# Altium integrated library Altium_Coil_Inductor.IntLib: 94 symbols (part 1 of 3)
Pins are listed as number, name and electrical type; pins without a type are passive.

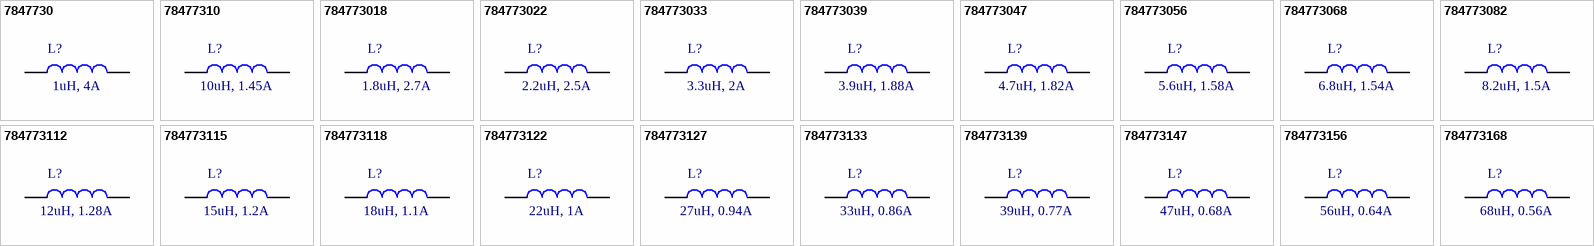
[diagram p0: symbols 7847730 to 784773168]

## 7847730
designator L?, comment 1uH, 4A
WE-PD2A SMT Power Inductor, size 4532, 1uH, 4A; Manufacturer Part Number: 7847730; Manufacturer: Wurth Elektronik; DC Resistance max.: 0.049Ohm; Saturation Current: 5.72A; Self Resonant Frequency: 110MHz; DC Resistance typ.: 0.014Ohm; Rated Voltage: 80VDC; Supply 1 Name: Digi-Key; Supply 1 SN: 732-6803-2-ND; Supply 2 Name: Mouser; Supply 2 SN: 710-7847730; Supply 3 Name: thegioiic; ComponentLink1Description: Manufacturer; ComponentLink1URL: http://www.we-online.de; ComponentLink2Description: Datasheet; ComponentLink2URL: https://www.we-online.com/catalog/datasheet/7847730.pdf; Published Date: May 2020; Rated Current: 4A; Inductance: 1uH; Operating Temperature: -40 to +125degC; Mounting Technology: SMT; Packaging: Tape and Reel; Size: 4532; Supply 1 URL: https://www.digikey.com/en/products/detail/w%C3%BCrth-elektronik/7847730/5168772; Supply 2 URL: https://www.mouser.vn/ProductDetail/Wurth-Elektronik/7847730?qs=sBf%2Fb4nBSlde5F9DDjxYmQ%3D%3D; Supply 3 URL: https://www.thegioiic.com/cuon-cam-dan-smd-cd43-4532-1r0-1uh-2-7a
footprint WE-PD2A_4532
pins: 1, 2

## 78477310
designator L?, comment 10uH, 1.45A
WE-PD2A SMT Power Inductor, size 4532, 10uH, 1.45A; Manufacturer Part Number: 78477310; Manufacturer: Wurth Elektronik; DC Resistance max.: 0.182Ohm; Saturation Current: 1.74A; Self Resonant Frequency: 30MHz; DC Resistance typ.: 0.118Ohm; Rated Voltage: 80VDC; Supply 1 Name: Digi-Key; Supply 1 SN: 732-6812-2-ND; Supply 2 Name: Mouser; Supply 2 SN: 710-78477310; Supply 3 Name: thegioiic; ComponentLink1Description: Manufacturer; ComponentLink1URL: http://www.we-online.de; ComponentLink2Description: Datasheet; ComponentLink2URL: https://www.we-online.com/catalog/datasheet/78477310.pdf; Published Date: May 2020; Rated Current: 1.45A; Inductance: 10uH; Operating Temperature: -40 to +125degC; Mounting Technology: SMT; Packaging: Tape and Reel; Size: 4532; Supply 1 URL: https://www.digikey.com/en/products/detail/w%C3%BCrth-elektronik/78477310/5168778?s=N4IgTCBcDaIOwA4Asc4GYCMAGEBdAvkA; Supply 2 URL: https://www.mouser.vn/ProductDetail/Wurth-Elektronik/78477310?qs=sBf%2Fb4nBSldyYvbSID7ftA%3D%3D; Supply 3 URL: https://www.thegioiic.com/cuon-cam-dan-smd-cd43-4532-100-10uh-1-04a
footprint WE-PD2A_4532
pins: 1, 2

## 784773018
designator L?, comment 1.8uH, 2.7A
WE-PD2A SMT Power Inductor, size 4532, 1.8uH, 2.7A; Manufacturer Part Number: 784773018; Manufacturer: Wurth Elektronik; DC Resistance max.: 0.064Ohm; Saturation Current: 3.6A; Self Resonant Frequency: 85MHz; DC Resistance typ.: 0.028Ohm; Rated Voltage: 80VDC; Supply 1 Name: Digi-Key; Supply 1 SN: 732-6804-2-ND; Supply 2 Name: Mouser; Supply 2 SN: 710-784773018; ComponentLink1Description: Manufacturer; ComponentLink1URL: http://www.we-online.de; ComponentLink2Description: Datasheet; ComponentLink2URL: https://www.we-online.com/catalog/datasheet/784773018.pdf; Published Date: May 2020; Rated Current: 2.7A; Inductance: 1.8uH; Operating Temperature: -40 to +125degC; Mounting Technology: SMT; Packaging: Tape and Reel; Size: 4532; Supply 1 URL: https://www.digikey.com/en/products/detail/w%C3%BCrth-elektronik/784773018/5168841?s=N4IgTCBcDaIOwA4Asc4GYAMBGBIC6AvkA; Supply 2 URL: https://www.mouser.vn/ProductDetail/Wurth-Elektronik/784773018?qs=sBf%2Fb4nBSleQ5H1IVXBHSg%3D%3D
footprint WE-PD2A_4532
pins: 1, 2

## 784773022
designator L?, comment 2.2uH, 2.5A
WE-PD2A SMT Power Inductor, size 4532, 2.2uH, 2.5A; Manufacturer Part Number: 784773022; Manufacturer: Wurth Elektronik; DC Resistance max.: 0.071Ohm; Saturation Current: 3.38A; Self Resonant Frequency: 74MHz; DC Resistance typ.: 0.034Ohm; Rated Voltage: 80VDC; Supply 1 Name: Digi-Key; Supply 1 SN: 732-6805-2-ND; Supply 2 Name: Mouser; Supply 2 SN: 710-784773022; Supply 3 Name: thegioiic; ComponentLink1Description: Manufacturer; ComponentLink1URL: http://www.we-online.de; ComponentLink2Description: Datasheet; ComponentLink2URL: https://www.we-online.com/catalog/datasheet/784773022.pdf; Published Date: May 2020; Rated Current: 2.5A; Inductance: 2.2uH; Operating Temperature: -40 to +125degC; Mounting Technology: SMT; Packaging: Tape and Reel; Size: 4532; Supply 1 URL: https://www.digikey.com/en/products/detail/w%C3%BCrth-elektronik/784773022/5168842?s=N4IgTCBcDaIOwA4Asc4GYAMYIF0C%2BQA; Supply 2 URL: https://www.mouser.vn/ProductDetail/Wurth-Elektronik/784773022?qs=sBf%2Fb4nBSlcBBrrMBQmuMg%3D%3D; Supply 3 URL: https://www.thegioiic.com/cuon-cam-dan-smd-cd43-4532-2r2-2-2uh-2-25a
footprint WE-PD2A_4532
pins: 1, 2

## 784773033
designator L?, comment 3.3uH, 2A
WE-PD2A SMT Power Inductor, size 4532, 3.3uH, 2A; Manufacturer Part Number: 784773033; Manufacturer: Wurth Elektronik; DC Resistance max.: 0.086Ohm; Saturation Current: 2.88A; Self Resonant Frequency: 55MHz; DC Resistance typ.: 0.041Ohm; Rated Voltage: 80VDC; Supply 1 Name: Digi-Key; Supply 1 SN: 732-6806-2-ND; Supply 2 Name: Mouser; Supply 2 SN: 710-784773033; Supply 3 Name: thegioiic; ComponentLink1Description: Manufacturer; ComponentLink1URL: http://www.we-online.de; ComponentLink2Description: Datasheet; ComponentLink2URL: https://www.we-online.com/catalog/datasheet/784773033.pdf; Published Date: May 2020; Rated Current: 2A; Inductance: 3.3uH; Operating Temperature: -40 to +125degC; Mounting Technology: SMT; Packaging: Tape and Reel; Size: 4532; Supply 1 URL: https://www.digikey.com/en/products/detail/w%C3%BCrth-elektronik/784773033/5168843?s=N4IgTCBcDaIOwA4Asc4GYAMa0gLoF8g; Supply 2 URL: https://www.mouser.vn/ProductDetail/Wurth-Elektronik/784773033?qs=sBf%2Fb4nBSlcLzNIjutVkew%3D%3D; Supply 3 URL: https://www.thegioiic.com/cuon-cam-dan-smd-cd43-4532-3r3-3-3uh-2a
footprint WE-PD2A_4532
pins: 1, 2

## 784773039
designator L?, comment 3.9uH, 1.88A
WE-PD2A SMT Power Inductor, size 4532, 3.9uH, 1.88A; Manufacturer Part Number: 784773039; Manufacturer: Wurth Elektronik; DC Resistance max.: 0.094Ohm; Saturation Current: 2.57A; Self Resonant Frequency: 50MHz; DC Resistance typ.: 0.054Ohm; Rated Voltage: 80VDC; Supply 1 Name: Digi-Key; Supply 1 SN: 732-6807-2-ND; Supply 2 Name: Mouser; Supply 2 SN: 710-784773039; ComponentLink1Description: Manufacturer; ComponentLink1URL: http://www.we-online.de; ComponentLink2Description: Datasheet; ComponentLink2URL: https://www.we-online.com/catalog/datasheet/784773039.pdf; Published Date: May 2020; Rated Current: 1.88A; Inductance: 3.9uH; Operating Temperature: -40 to +125degC; Mounting Technology: SMT; Packaging: Tape and Reel; Size: 4532; Supply 1 URL: https://www.digikey.com/en/products/detail/w%C3%BCrth-elektronik/784773039/5168844?s=N4IgTCBcDaIOwA4Asc4GYAMaCcIC6AvkA; Supply 2 URL: https://www.mouser.vn/ProductDetail/Wurth-Elektronik/784773039?qs=sBf%2Fb4nBSlfKtooI5th99Q%3D%3D
footprint WE-PD2A_4532
pins: 1, 2

## 784773047
designator L?, comment 4.7uH, 1.82A
WE-PD2A SMT Power Inductor, size 4532, 4.7uH, 1.82A; Manufacturer Part Number: 784773047; Manufacturer: Wurth Elektronik; DC Resistance max.: 0.11Ohm; Saturation Current: 2.46A; Self Resonant Frequency: 45MHz; DC Resistance typ.: 0.059Ohm; Rated Voltage: 80VDC; Supply 1 Name: Digi-Key; Supply 1 SN: 732-6808-2-ND; Supply 2 Name: Mouser; Supply 2 SN: 710-784773047; Supply 3 Name: thegioiic; ComponentLink1Description: Manufacturer; ComponentLink1URL: http://www.we-online.de; ComponentLink2Description: Datasheet; ComponentLink2URL: https://www.we-online.com/catalog/datasheet/784773047.pdf; Published Date: May 2020; Rated Current: 1.82A; Inductance: 4.7uH; Operating Temperature: -40 to +125degC; Mounting Technology: SMT; Packaging: Tape and Reel; Size: 4532; Supply 1 URL: https://www.digikey.com/en/products/detail/w%C3%BCrth-elektronik/784773047/5168845?s=N4IgTCBcDaIOwA4Asc4GYAMKQF0C%2BQA; Supply 2 URL: https://www.mouser.vn/ProductDetail/Wurth-Elektronik/784773047?qs=sBf%2Fb4nBSlexMu59FZ%252B%2F%2Fw%3D%3D; Supply 3 URL: https://www.thegioiic.com/cuon-cam-dan-smd-cd43-4532-4r7-4-7uh-1-62a
footprint WE-PD2A_4532
pins: 1, 2

## 784773056
designator L?, comment 5.6uH, 1.58A
WE-PD2A SMT Power Inductor, size 4532, 5.6uH, 1.58A; Manufacturer Part Number: 784773056; Manufacturer: Wurth Elektronik; DC Resistance max.: 0.126Ohm; Saturation Current: 2.43A; Self Resonant Frequency: 40MHz; DC Resistance typ.: 0.069Ohm; Rated Voltage: 80VDC; Supply 1 Name: Digi-Key; Supply 1 SN: 732-6809-2-ND; Supply 2 Name: Mouser; Supply 2 SN: 710-784773056; ComponentLink1Description: Manufacturer; ComponentLink1URL: http://www.we-online.de; ComponentLink2Description: Datasheet; ComponentLink2URL: https://www.we-online.com/catalog/datasheet/784773056.pdf; Published Date: May 2020; Rated Current: 1.58A; Inductance: 5.6uH; Operating Temperature: -40 to +125degC; Mounting Technology: SMT; Packaging: Tape and Reel; Size: 4532; Supply 1 URL: https://www.digikey.com/en/products/detail/w%C3%BCrth-elektronik/784773056/5168846?s=N4IgTCBcDaIOwA4Asc4GYAMBWAbCAugL5A; Supply 2 URL: https://www.mouser.vn/ProductDetail/Wurth-Elektronik/784773056?qs=sBf%2Fb4nBSlc8abp2k0EE6g%3D%3D
footprint WE-PD2A_4532
pins: 1, 2

## 784773068
designator L?, comment 6.8uH, 1.54A
WE-PD2A SMT Power Inductor, size 4532, 6.8uH, 1.54A; Manufacturer Part Number: 784773068; Manufacturer: Wurth Elektronik; DC Resistance max.: 0.131Ohm; Saturation Current: 2.1A; Self Resonant Frequency: 35MHz; DC Resistance typ.: 0.076Ohm; Rated Voltage: 80VDC; Supply 1 Name: Digi-Key; Supply 1 SN: 732-6810-2-ND; Supply 2 Name: Mouser; Supply 2 SN: 710-784773068; Supply 3 Name: thegioiic; ComponentLink1Description: Manufacturer; ComponentLink1URL: http://www.we-online.de; ComponentLink2Description: Datasheet; ComponentLink2URL: https://www.we-online.com/catalog/datasheet/784773068.pdf; Published Date: May 2020; Rated Current: 1.54A; Inductance: 6.8uH; Operating Temperature: -40 to +125degC; Mounting Technology: SMT; Packaging: Tape and Reel; Size: 4532; Parameter 1: *; Supply 1 URL: https://www.digikey.com/en/products/detail/w%C3%BCrth-elektronik/784773068/5168847?s=N4IgTCBcDaIOwA4Asc4GYAMA2BIC6AvkA; Supply 2 URL: https://www.mouser.vn/ProductDetail/Wurth-Elektronik/784773068?qs=sBf%2Fb4nBSlcnXmzECz8Epw%3D%3D; Supply 3 URL: https://www.thegioiic.com/cuon-cam-dan-smd-cd43-4532-6r8-6-8uh-1-43a
footprint WE-PD2A_4532
pins: 1, 2

## 784773082
designator L?, comment 8.2uH, 1.5A
WE-PD2A SMT Power Inductor, size 4532, 8.2uH, 1.5A; Manufacturer Part Number: 784773082; Manufacturer: Wurth Elektronik; DC Resistance max.: 0.146Ohm; Saturation Current: 1.8A; Self Resonant Frequency: 30MHz; DC Resistance typ.: 0.116Ohm; Rated Voltage: 80VDC; Supply 1 Name: Digi-Key; Supply 1 SN: 732-6811-2-ND; Supply 2 Name: Mouser; Supply 2 SN: 710-784773082; ComponentLink1Description: Manufacturer; ComponentLink1URL: http://www.we-online.de; ComponentLink2Description: Datasheet; ComponentLink2URL: https://www.we-online.com/catalog/datasheet/784773082.pdf; Published Date: May 2020; Rated Current: 1.5A; Inductance: 8.2uH; Operating Temperature: -40 to +125degC; Mounting Technology: SMT; Packaging: Tape and Reel; Size: 4532; Supply 1 URL: https://www.digikey.com/en/products/detail/w%C3%BCrth-elektronik/784773082/5168848?s=N4IgTCBcDaIOwA4Asc4GYAMCIF0C%2BQA; Supply 2 URL: https://www.mouser.vn/ProductDetail/Wurth-Elektronik/784773082?qs=sBf%2Fb4nBSlcCjuVMP%252BH0Qg%3D%3D
footprint WE-PD2A_4532
pins: 1, 2

## 784773112
designator L?, comment 12uH, 1.28A
WE-PD2A SMT Power Inductor, size 4532, 12uH, 1.28A; Manufacturer Part Number: 784773112; Manufacturer: Wurth Elektronik; DC Resistance max.: 0.21Ohm; Saturation Current: 1.62A; Self Resonant Frequency: 30MHz; DC Resistance typ.: 0.156Ohm; Rated Voltage: 80VDC; Supply 1 Name: Digi-Key; Supply 1 SN: 732-6813-2-ND; Supply 2 Name: Mouser; Supply 2 SN: 710-784773112; ComponentLink1Description: Manufacturer; ComponentLink1URL: http://www.we-online.de; ComponentLink2Description: Datasheet; ComponentLink2URL: https://www.we-online.com/catalog/datasheet/784773112.pdf; Published Date: May 2020; Rated Current: 1.28A; Inductance: 12uH; Operating Temperature: -40 to +125degC; Mounting Technology: SMT; Packaging: Tape and Reel; Size: 4532; Supply 1 URL: https://www.digikey.com/en/products/detail/w%C3%BCrth-elektronik/784773112/5168849?s=N4IgTCBcDaIOwA4Asc4GYCMGIF0C%2BQA; Supply 2 URL: https://www.mouser.vn/ProductDetail/Wurth-Elektronik/784773112?qs=sBf%2Fb4nBSlcUWypdFvrQSg%3D%3D
footprint WE-PD2A_4532
pins: 1, 2

## 784773115
designator L?, comment 15uH, 1.2A
WE-PD2A SMT Power Inductor, size 4532, 15uH, 1.2A; Manufacturer Part Number: 784773115; Manufacturer: Wurth Elektronik; DC Resistance max.: 0.235Ohm; Saturation Current: 1.46A; Self Resonant Frequency: 27MHz; DC Resistance typ.: 0.204Ohm; Rated Voltage: 80VDC; Supply 1 Name: Digi-Key; Supply 1 SN: 732-6814-2-ND; Supply 2 Name: Mouser; Supply 2 SN: 710-784773115; ComponentLink1Description: Manufacturer; ComponentLink1URL: http://www.we-online.de; ComponentLink2Description: Datasheet; ComponentLink2URL: https://www.we-online.com/catalog/datasheet/784773115.pdf; Published Date: May 2020; Rated Current: 1.2A; Inductance: 15uH; Operating Temperature: -40 to +125degC; Mounting Technology: SMT; Packaging: Tape and Reel; Size: 4532; Supply 1 URL: https://www.digikey.com/en/products/detail/w%C3%BCrth-elektronik/784773115/5168850?s=N4IgTCBcDaIOwA4Asc4GYCMGCsIC6AvkA; Supply 2 URL: https://www.mouser.vn/ProductDetail/Wurth-Elektronik/784773115?qs=sBf%2Fb4nBSlf%252Be0gXfR1Slw%3D%3D
footprint WE-PD2A_4532
pins: 1, 2

## 784773118
designator L?, comment 18uH, 1.1A
WE-PD2A SMT Power Inductor, size 4532, 18uH, 1.1A; Manufacturer Part Number: 784773118; Manufacturer: Wurth Elektronik; DC Resistance max.: 0.338Ohm; Saturation Current: 1.29A; Self Resonant Frequency: 22MHz; DC Resistance typ.: 0.225Ohm; Rated Voltage: 80VDC; Supply 1 Name: Digi-Key; Supply 1 SN: 732-6815-2-ND; Supply 2 Name: Mouser; Supply 2 SN: 710-784773118; ComponentLink1Description: Manufacturer; ComponentLink1URL: http://www.we-online.de; ComponentLink2Description: Datasheet; ComponentLink2URL: https://www.we-online.com/catalog/datasheet/784773118.pdf; Published Date: May 2020; Rated Current: 1.1A; Inductance: 18uH; Operating Temperature: -40 to +125degC; Mounting Technology: SMT; Packaging: Tape and Reel; Size: 4532; Supply 1 URL: https://www.digikey.com/en/products/detail/w%C3%BCrth-elektronik/784773118/5168851?s=N4IgTCBcDaIOwA4Asc4GYCMGEgLoF8g; Supply 2 URL: https://www.mouser.vn/ProductDetail/Wurth-Elektronik/784773118?qs=sBf%2Fb4nBSldB4lq3T1V5tg%3D%3D
footprint WE-PD2A_4532
pins: 1, 2

## 784773122
designator L?, comment 22uH, 1A
WE-PD2A SMT Power Inductor, size 4532, 22uH, 1A; Manufacturer Part Number: 784773122; Manufacturer: Wurth Elektronik; DC Resistance max.: 0.37Ohm; Saturation Current: 1.22A; Self Resonant Frequency: 20MHz; DC Resistance typ.: 0.261Ohm; Rated Voltage: 80VDC; Supply 1 Name: Digi-Key; Supply 1 SN: 732-6816-2-ND; Supply 2 Name: Mouser; Supply 2 SN: 710-784773122; ComponentLink1Description: Manufacturer; ComponentLink1URL: http://www.we-online.de; ComponentLink2Description: Datasheet; ComponentLink2URL: https://www.we-online.com/catalog/datasheet/784773122.pdf; Published Date: May 2020; Rated Current: 1A; Inductance: 22uH; Operating Temperature: -40 to +125degC; Mounting Technology: SMT; Packaging: Tape and Reel; Size: 4532; Supply 1 URL: https://www.digikey.com/en/products/detail/w%C3%BCrth-elektronik/784773122/5168852?s=N4IgTCBcDaIOwA4Asc4GYCMYIF0C%2BQA; Supply 2 URL: https://www.mouser.vn/ProductDetail/Wurth-Elektronik/784773122?qs=sBf%2Fb4nBSlcvmW779TjjSg%3D%3D
footprint WE-PD2A_4532
pins: 1, 2

## 784773127
designator L?, comment 27uH, 0.94A
WE-PD2A SMT Power Inductor, size 4532, 27uH, 0.94A; Manufacturer Part Number: 784773127; Manufacturer: Wurth Elektronik; DC Resistance max.: 0.522Ohm; Saturation Current: 1A; Self Resonant Frequency: 17MHz; DC Resistance typ.: 0.328Ohm; Rated Voltage: 80VDC; Supply 1 Name: Digi-Key; Supply 1 SN: 732-6817-2-ND; Supply 2 Name: Mouser; Supply 2 SN: 710-784773127; ComponentLink1Description: Manufacturer; ComponentLink1URL: http://www.we-online.de; ComponentLink2Description: Datasheet; ComponentLink2URL: https://www.we-online.com/catalog/datasheet/784773127.pdf; Published Date: May 2020; Rated Current: 0.94A; Inductance: 27uH; Operating Temperature: -40 to +125degC; Mounting Technology: SMT; Packaging: Tape and Reel; Size: 4532; Supply 1 URL: https://www.digikey.com/en/products/detail/w%C3%BCrth-elektronik/784773127/5168853?s=N4IgTCBcDaIOwA4Asc4GYCMY4gLoF8g; Supply 2 URL: https://www.mouser.vn/ProductDetail/Wurth-Elektronik/784773127?qs=sBf%2Fb4nBSldFrOzMksw2nQ%3D%3D
footprint WE-PD2A_4532
pins: 1, 2

## 784773133
designator L?, comment 33uH, 0.86A
WE-PD2A SMT Power Inductor, size 4532, 33uH, 0.86A; Manufacturer Part Number: 784773133; Manufacturer: Wurth Elektronik; DC Resistance max.: 0.54Ohm; Saturation Current: 0.9A; Self Resonant Frequency: 16MHz; DC Resistance typ.: 0.37Ohm; Rated Voltage: 80VDC; Supply 1 Name: Digi-Key; Supply 1 SN: 732-6818-2-ND; Supply 2 Name: Mouser; Supply 2 SN: 710-784773133; ComponentLink1Description: Manufacturer; ComponentLink1URL: http://www.we-online.de; ComponentLink2Description: Datasheet; ComponentLink2URL: https://www.we-online.com/catalog/datasheet/784773133.pdf; Published Date: May 2020; Rated Current: 0.86A; Inductance: 33uH; Operating Temperature: -40 to +125degC; Mounting Technology: SMT; Packaging: Tape and Reel; Size: 4532; Supply 1 URL: https://www.digikey.com/en/products/detail/w%C3%BCrth-elektronik/784773133/5168854?s=N4IgTCBcDaIOwA4Asc4GYCMa0gLoF8g; Supply 2 URL: https://www.mouser.vn/ProductDetail/Wurth-Elektronik/784773133?qs=sBf%2Fb4nBSldLFXm7e5FBgg%3D%3D
footprint WE-PD2A_4532 (SMD Power Inductor, body 4.5x4mm)
pins: 1, 2

## 784773139
designator L?, comment 39uH, 0.77A
WE-PD2A SMT Power Inductor, size 4532, 39uH, 0.77A; Manufacturer Part Number: 784773139; Manufacturer: Wurth Elektronik; DC Resistance max.: 0.587Ohm; Saturation Current: 0.87A; Self Resonant Frequency: 15MHz; DC Resistance typ.: 0.418Ohm; Rated Voltage: 80VDC; Supply 1 Name: Digi-Key; Supply 1 SN: 732-6819-2-ND; Supply 2 Name: Mouser; Supply 2 SN: 710-784773139; ComponentLink1Description: Manufacturer; ComponentLink1URL: http://www.we-online.de; ComponentLink2Description: Datasheet; ComponentLink2URL: https://www.we-online.com/catalog/datasheet/784773139.pdf; Published Date: May 2020; Rated Current: 0.77A; Inductance: 39uH; Operating Temperature: -40 to +125degC; Mounting Technology: SMT; Packaging: Tape and Reel; Size: 4532; Supply 1 URL: https://www.digikey.com/en/products/detail/w%C3%BCrth-elektronik/784773139/5168855?s=N4IgTCBcDaIOwA4Asc4GYCMaCcIC6AvkA; Supply 2 URL: https://www.mouser.vn/ProductDetail/Wurth-Elektronik/784773139?qs=sBf%2Fb4nBSleGlFolV50CBA%3D%3D
footprint WE-PD2A_4532
pins: 1, 2

## 784773147
designator L?, comment 47uH, 0.68A
WE-PD2A SMT Power Inductor, size 4532, 47uH, 0.68A; Manufacturer Part Number: 784773147; Manufacturer: Wurth Elektronik; DC Resistance max.: 0.844Ohm; Saturation Current: 0.77A; Self Resonant Frequency: 12MHz; DC Resistance typ.: 0.523Ohm; Rated Voltage: 80VDC; Supply 1 Name: Digi-Key; Supply 2 Name: Mouser; Supply 1 SN: 732-6820-2-ND; Supply 2 SN: 710-784773147; ComponentLink1Description: Manufacturer; ComponentLink1URL: http://www.we-online.de; ComponentLink2Description: Datasheet; ComponentLink2URL: https://www.we-online.com/catalog/datasheet/784773147.pdf; Published Date: May 2020; Rated Current: 0.68A; Inductance: 47uH; Operating Temperature: -40 to +125degC; Mounting Technology: SMT; Packaging: Tape and Reel; Size: 4532; Supply 1 URL: https://www.digikey.com/en/products/detail/w%C3%BCrth-elektronik/784773147/5168856?s=N4IgTCBcDaIOwA4Asc4GYCMKQF0C%2BQA; Supply 2 URL: https://www.mouser.vn/ProductDetail/Wurth-Elektronik/784773147?qs=sBf%2Fb4nBSle9kgx4I0M%252BSA%3D%3D
footprint WE-PD2A_4532
pins: 1, 2

## 784773156
designator L?, comment 56uH, 0.64A
WE-PD2A SMT Power Inductor, size 4532, 56uH, 0.64A; Manufacturer Part Number: 784773156; Manufacturer: Wurth Elektronik; DC Resistance max.: 0.937Ohm; Saturation Current: 0.75A; Self Resonant Frequency: 12MHz; DC Resistance typ.: 0.714Ohm; Rated Voltage: 80VDC; Supply 1 Name: Digi-Key; Supply 2 Name: Mouser; Supply 1 SN: 732-6821-2-ND; Supply 2 SN: 710-784773156; ComponentLink1Description: Manufacturer; ComponentLink1URL: http://www.we-online.de; ComponentLink2Description: Datasheet; ComponentLink2URL: https://www.we-online.com/catalog/datasheet/784773156.pdf; Published Date: May 2020; Rated Current: 0.64A; Inductance: 56uH; Operating Temperature: -40 to +125degC; Mounting Technology: SMT; Packaging: Tape and Reel; Size: 4532; Supply 1 URL: https://www.digikey.com/en/products/detail/w%C3%BCrth-elektronik/784773156/5168857?s=N4IgTCBcDaIOwA4Asc4GYCMBWAbCAugL5A; Supply 2 URL: https://www.mouser.vn/ProductDetail/Wurth-Elektronik/784773156?qs=sBf%2Fb4nBSleyP3AnWTna%252BQ%3D%3D
footprint WE-PD2A_4532
pins: 1, 2

## 784773168
designator L?, comment 68uH, 0.56A
WE-PD2A SMT Power Inductor, size 4532, 68uH, 0.56A; Manufacturer Part Number: 784773168; Manufacturer: Wurth Elektronik; DC Resistance max.: 1.117Ohm; Saturation Current: 0.68A; Self Resonant Frequency: 11MHz; DC Resistance typ.: 0.754Ohm; Rated Voltage: 80VDC; Supply 1 Name: Digi-Key; Supply 2 Name: Mouser; Supply 1 SN: 732-6822-2-ND; Supply 2 SN: 710-784773168; ComponentLink1Description: Manufacturer; ComponentLink1URL: http://www.we-online.de; ComponentLink2Description: Datasheet; ComponentLink2URL: https://www.we-online.com/catalog/datasheet/784773168.pdf; Published Date: May 2020; Rated Current: 0.56A; Inductance: 68uH; Operating Temperature: -40 to +125degC; Mounting Technology: SMT; Packaging: Tape and Reel; Size: 4532; Supply 1 URL: https://www.digikey.com/en/products/detail/w%C3%BCrth-elektronik/784773168/5168858?s=N4IgTCBcDaIOwA4Asc4GYCMA2BIC6AvkA; Supply 2 URL: https://www.mouser.vn/ProductDetail/Wurth-Elektronik/784773168?qs=sBf%2Fb4nBSle9WMcPwYFP2g%3D%3D
footprint WE-PD2A_4532
pins: 1, 2


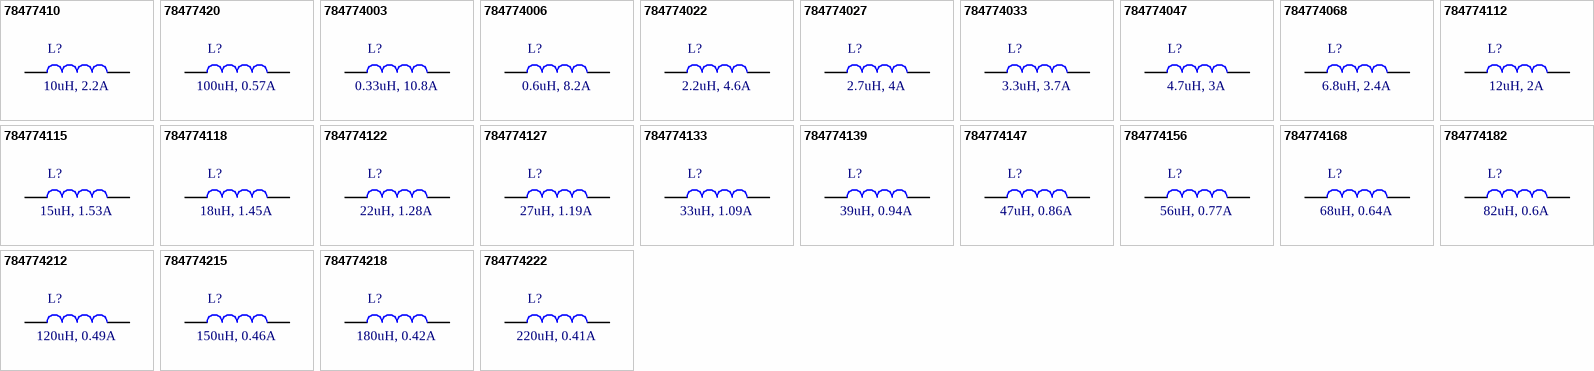
[diagram p1: symbols 78477410 to 784774222]

## 78477410
designator L?, comment 10uH, 2.2A
WE-PD2A SMT Power Inductor, size 5848, 10uH, 2.2A; Manufacturer Part Number: 78477410; Manufacturer: Wurth Elektronik; DC Resistance max.: 0.1Ohm; Saturation Current: 2.5A; Self Resonant Frequency: 26MHz; DC Resistance typ.: 0.078Ohm; Rated Voltage: 80VDC; Supply 1 Name: Digi-Key; Supply 1 SN: 732-6830-2-ND; Supply 2 Name: Mouser; Supply 2 SN: 710-78477410; Supply 3 Name: thegioiic; ComponentLink1Description: Manufacturer; ComponentLink1URL: http://www.we-online.de; ComponentLink2Description: Datasheet; ComponentLink2URL: https://www.we-online.com/catalog/datasheet/78477410.pdf; Published Date: May 2020; Rated Current: 2.2A; Inductance: 10uH; Operating Temperature: -40 to +125degC; Mounting Technology: SMT; Packaging: Tape and Reel; Size: 5848; Supply 1 URL: https://www.digikey.com/en/products/detail/w%C3%BCrth-elektronik/78477410/5168779?s=N4IgTCBcDaIOwA4Asc5IIwAYQF0C%2BQA; Supply 2 URL: https://www.mouser.vn/ProductDetail/Wurth-Elektronik/78477410?qs=sBf%2Fb4nBSldlX6CYaJExDg%3D%3D; Supply 3 URL: https://www.thegioiic.com/cuon-cam-dan-smd-cd53-5852-100-10uh-1-8a
footprint WE-PD2A_5848
pins: 1, 2

## 78477420
designator L?, comment 100uH, 0.57A
WE-PD2A SMT Power Inductor, size 5848, 100uH, 0.57A; Manufacturer Part Number: 78477420; Manufacturer: Wurth Elektronik; DC Resistance max.: 0.65Ohm; Saturation Current: 0.68A; Self Resonant Frequency: 7MHz; DC Resistance typ.: 0.51Ohm; Rated Voltage: 80VDC; Supply 1 Name: Digi-Key; Supply 1 SN: 732-6842-2-ND; Supply 2 Name: Mouser; Supply 2 SN: 710-78477420; Supply 3 Name: thegioiic; ComponentLink1Description: Manufacturer; ComponentLink1URL: http://www.we-online.de; ComponentLink2Description: Datasheet; ComponentLink2URL: https://www.we-online.com/catalog/datasheet/78477420.pdf; Published Date: May 2020; Rated Current: 0.57A; Inductance: 100uH; Operating Temperature: -40 to +125degC; Mounting Technology: SMT; Packaging: Tape and Reel; Size: 5848; Supply 1 URL: https://www.digikey.com/en/products/detail/w%C3%BCrth-elektronik/78477420/5168780?s=N4IgTCBcDaIOwA4Asc5LABhAXQL5A; Supply 2 URL: https://www.mouser.vn/ProductDetail/Wurth-Elektronik/78477420?qs=sBf%2Fb4nBSlcdU46whVu6%2FA%3D%3D; Supply 3 URL: https://www.thegioiic.com/cuon-cam-dan-smd-cd53-5852-101-100uh-4-5a
footprint WE-PD2A_5848
pins: 1, 2

## 784774003
designator L?, comment 0.33uH, 10.8A
WE-PD2A SMT Power Inductor, size 5848, 0.33uH, 10.8A; Manufacturer Part Number: 784774003; Manufacturer: Wurth Elektronik; DC Resistance max.: 0.008Ohm; Saturation Current: 15.3A; Self Resonant Frequency: 295MHz; DC Resistance typ.: 0.006Ohm; Rated Voltage: 80VDC; Supply 1 Name: Digi-Key; Supply 1 SN: 732-6823-2-ND; Supply 2 Name: Mouser; Supply 2 SN: 710-784774003; ComponentLink1Description: Manufacturer; ComponentLink1URL: http://www.we-online.de; ComponentLink2Description: Datasheet; ComponentLink2URL: https://www.we-online.com/catalog/datasheet/784774003.pdf; Published Date: May 2020; Rated Current: 10.8A; Inductance: 0.33uH; Operating Temperature: -40 to +125degC; Mounting Technology: SMT; Packaging: Tape and Reel; Size: 5848; Supply 1 URL: https://www.digikey.com/en/products/detail/w%C3%BCrth-elektronik/784774003/5168859?s=N4IgTCBcDaIOwA4Asc5IAzoMwgLoF8g; Supply 2 URL: https://www.mouser.vn/ProductDetail/Wurth-Elektronik/784774003?qs=sBf%2Fb4nBSlfsz1qgrFR5cw%3D%3D
footprint WE-PD2A_5848 (SMD Power Inductor, body 5.8x5.2mm)
pins: 1, 2

## 784774006
designator L?, comment 0.6uH, 8.2A
WE-PD2A SMT Power Inductor, size 5848, 0.6uH, 8.2A; Manufacturer Part Number: 784774006; Manufacturer: Wurth Elektronik; DC Resistance max.: 0.018Ohm; Saturation Current: 13.5A; Self Resonant Frequency: 210MHz; DC Resistance typ.: 0.009Ohm; Rated Voltage: 80VDC; Supply 1 Name: Digi-Key; Supply 1 SN: 732-6824-2-ND; Supply 2 Name: Mouser; Supply 2 SN: 710-784774006; ComponentLink1Description: Manufacturer; ComponentLink1URL: http://www.we-online.de; ComponentLink2Description: Datasheet; ComponentLink2URL: https://www.we-online.com/catalog/datasheet/784774006.pdf; Published Date: May 2020; Rated Current: 8.2A; Inductance: 0.6uH; Operating Temperature: -40 to +125degC; Mounting Technology: SMT; Packaging: Tape and Reel; Size: 5848; Supply 1 URL: https://www.digikey.com/en/products/detail/w%C3%BCrth-elektronik/784774006/5168860?s=N4IgTCBcDaIOwA4Asc5IAzoGwgLoF8g; Supply 2 URL: https://www.mouser.vn/ProductDetail/Wurth-Elektronik/784774006?qs=sBf%2Fb4nBSld9EioUyJB1Lg%3D%3D
footprint WE-PD2A_5848
pins: 1, 2

## 784774022
designator L?, comment 2.2uH, 4.6A
WE-PD2A SMT Power Inductor, size 5848, 2.2uH, 4.6A; Manufacturer Part Number: 784774022; Manufacturer: Wurth Elektronik; DC Resistance max.: 0.041Ohm; Saturation Current: 8.2A; Self Resonant Frequency: 54MHz; DC Resistance typ.: 0.026Ohm; Rated Voltage: 80VDC; Supply 1 Name: Digi-Key; Supply 1 SN: 732-6825-2-ND; Supply 2 Name: Mouser; Supply 2 SN: 710-784774022; Supply 3 Name: thegioiic; ComponentLink1Description: Manufacturer; ComponentLink1URL: http://www.we-online.de; ComponentLink2Description: Datasheet; ComponentLink2URL: https://www.we-online.com/catalog/datasheet/784774022.pdf; Published Date: May 2020; Rated Current: 4.6A; Inductance: 2.2uH; Operating Temperature: -40 to +125degC; Mounting Technology: SMT; Packaging: Tape and Reel; Size: 5848; Supply 1 URL: https://www.digikey.com/en/products/detail/w%C3%BCrth-elektronik/784774022/5168861?s=N4IgTCBcDaIOwA4Asc5IAxggXQL5A; Supply 2 URL: https://www.mouser.vn/ProductDetail/Wurth-Elektronik/784774022?qs=sBf%2Fb4nBSlfFQ39MxtOnjA%3D%3D; Supply 3 URL: https://www.thegioiic.com/cuon-cam-dan-smd-cd53-5852-2r2-2-2uh-3-5a
footprint WE-PD2A_5848
pins: 1, 2

## 784774027
designator L?, comment 2.7uH, 4A
WE-PD2A SMT Power Inductor, size 5848, 2.7uH, 4A; Manufacturer Part Number: 784774027; Manufacturer: Wurth Elektronik; DC Resistance max.: 0.045Ohm; Saturation Current: 8A; Self Resonant Frequency: 50MHz; DC Resistance typ.: 0.032Ohm; Rated Voltage: 80VDC; Supply 1 Name: Digi-Key; Supply 1 SN: 732-6826-2-ND; Supply 2 Name: Mouser; Supply 2 SN: 710-784774027; Supply 3 Name: thegioiic; ComponentLink1Description: Manufacturer; ComponentLink1URL: http://www.we-online.de; ComponentLink2Description: Datasheet; ComponentLink2URL: https://www.we-online.com/catalog/datasheet/784774027.pdf; Published Date: May 2020; Rated Current: 4A; Inductance: 2.7uH; Operating Temperature: -40 to +125degC; Mounting Technology: SMT; Packaging: Tape and Reel; Size: 5848; Supply 1 URL: https://www.digikey.com/en/products/detail/w%C3%BCrth-elektronik/784774027/5168862?s=N4IgTCBcDaIOwA4Asc5IAxjiAugXyA; Supply 2 URL: https://www.mouser.vn/ProductDetail/Wurth-Elektronik/784774027?qs=sBf%2Fb4nBSlfgMvNsCt7evg%3D%3D; Supply 3 URL: https://www.thegioiic.com/cuon-cam-dan-smd-cd53-5852-2r7-2-7uh-3-2a
footprint WE-PD2A_5848
pins: 1, 2

## 784774033
designator L?, comment 3.3uH, 3.7A
WE-PD2A SMT Power Inductor, size 5848, 3.3uH, 3.7A; Manufacturer Part Number: 784774033; Manufacturer: Wurth Elektronik; DC Resistance max.: 0.06Ohm; Saturation Current: 7.5A; Self Resonant Frequency: 43MHz; DC Resistance typ.: 0.042Ohm; Rated Voltage: 80VDC; Supply 1 Name: Digi-Key; Supply 1 SN: 732-6827-2-ND; Supply 2 Name: Mouser; Supply 2 SN: 710-784774033; Supply 3 Name: thegioiic; ComponentLink1Description: Manufacturer; ComponentLink1URL: http://www.we-online.de; ComponentLink2Description: Datasheet; ComponentLink2URL: https://www.we-online.com/catalog/datasheet/784774033.pdf; Published Date: May 2020; Rated Current: 3.7A; Inductance: 3.3uH; Operating Temperature: -40 to +125degC; Mounting Technology: SMT; Packaging: Tape and Reel; Size: 5848; Supply 1 URL: https://www.digikey.com/en/products/detail/w%C3%BCrth-elektronik/784774033/5168863?s=N4IgTCBcDaIOwA4Asc5IAwGZMgLoF8g; Supply 2 URL: https://www.mouser.vn/ProductDetail/Wurth-Elektronik/784774033?qs=sBf%2Fb4nBSldyuij1RzSGcA%3D%3D; Supply 3 URL: https://www.thegioiic.com/cuon-cam-dan-smd-cd53-5852-3r3-3-3uh-2-8a
footprint WE-PD2A_5848
pins: 1, 2

## 784774047
designator L?, comment 4.7uH, 3A
WE-PD2A SMT Power Inductor, size 5848, 4.7uH, 3A; Manufacturer Part Number: 784774047; Manufacturer: Wurth Elektronik; DC Resistance max.: 0.071Ohm; Saturation Current: 5.5A; Self Resonant Frequency: 33MHz; DC Resistance typ.: 0.056Ohm; Rated Voltage: 80VDC; Supply 1 Name: Digi-Key; Supply 1 SN: 732-6828-2-ND; Supply 2 Name: Mouser; Supply 2 SN: 710-784774047; Supply 3 Name: thegioiic; ComponentLink1Description: Manufacturer; ComponentLink1URL: http://www.we-online.de; ComponentLink2Description: Datasheet; ComponentLink2URL: https://www.we-online.com/catalog/datasheet/784774047.pdf; Published Date: May 2020; Rated Current: 3A; Inductance: 4.7uH; Operating Temperature: -40 to +125degC; Mounting Technology: SMT; Packaging: Tape and Reel; Size: 5848; Supply 1 URL: https://www.digikey.com/en/products/detail/w%C3%BCrth-elektronik/784774047/5168864?s=N4IgTCBcDaIOwA4Asc5IAwpAXQL5A; Supply 2 URL: https://www.mouser.vn/ProductDetail/Wurth-Elektronik/784774047?qs=sBf%2Fb4nBSld3fMFHG3nO%252Bw%3D%3D; Supply 3 URL: https://www.thegioiic.com/cuon-cam-dan-smd-cd53-5852-4r7-4-7uh-2-5a
footprint WE-PD2A_5848
pins: 1, 2

## 784774068
designator L?, comment 6.8uH, 2.4A
WE-PD2A SMT Power Inductor, size 5848, 6.8uH, 2.4A; Manufacturer Part Number: 784774068; Manufacturer: Wurth Elektronik; DC Resistance max.: 0.082Ohm; Saturation Current: 5A; Self Resonant Frequency: 28MHz; DC Resistance typ.: 0.071Ohm; Rated Voltage: 80VDC; Supply 1 Name: Digi-Key; Supply 1 SN: 732-6829-2-ND; Supply 2 Name: Mouser; Supply 2 SN: 710-784774068; Supply 3 Name: thegioiic; ComponentLink1Description: Manufacturer; ComponentLink1URL: http://www.we-online.de; ComponentLink2Description: Datasheet; ComponentLink2URL: https://www.we-online.com/catalog/datasheet/784774068.pdf; Published Date: May 2020; Rated Current: 2.4A; Inductance: 6.8uH; Operating Temperature: -40 to +125degC; Mounting Technology: SMT; Packaging: Tape and Reel; Size: 5848; Supply 1 URL: https://www.digikey.com/en/products/detail/w%C3%BCrth-elektronik/784774068/5168865?s=N4IgTCBcDaIOwA4Asc5IAwDYEgLoF8g; Supply 2 URL: https://www.mouser.vn/ProductDetail/Wurth-Elektronik/784774068?qs=sBf%2Fb4nBSlfEjoZazogbYQ%3D%3D; Supply 3 URL: https://www.thegioiic.com/cuon-cam-dan-smd-cd53-5852-6r8-6-8uh-2-2a
footprint WE-PD2A_5848
pins: 1, 2

## 784774112
designator L?, comment 12uH, 2A
WE-PD2A SMT Power Inductor, size 5848, 12uH, 2A; Manufacturer Part Number: 784774112; Manufacturer: Wurth Elektronik; DC Resistance max.: 0.11Ohm; Saturation Current: 1.94A; Self Resonant Frequency: 24MHz; DC Resistance typ.: 0.082Ohm; Rated Voltage: 80VDC; Supply 1 Name: Digi-Key; Supply 1 SN: 732-6831-2-ND; Supply 2 Name: Mouser; Supply 2 SN: 710-784774112; ComponentLink1Description: Manufacturer; ComponentLink1URL: http://www.we-online.de; ComponentLink2Description: Datasheet; ComponentLink2URL: https://www.we-online.com/catalog/datasheet/784774112.pdf; Published Date: May 2020; Rated Current: 2A; Inductance: 12uH; Operating Temperature: -40 to +125degC; Mounting Technology: SMT; Packaging: Tape and Reel; Size: 5848; Supply 1 URL: https://www.digikey.com/en/products/detail/w%C3%BCrth-elektronik/784774112/5168866?s=N4IgTCBcDaIOwA4Asc5IIzogXQL5A; Supply 2 URL: https://www.mouser.vn/ProductDetail/Wurth-Elektronik/784774112?qs=sBf%2Fb4nBSlcatMhetvXIaQ%3D%3D
footprint WE-PD2A_5848
pins: 1, 2

## 784774115
designator L?, comment 15uH, 1.53A
WE-PD2A SMT Power Inductor, size 5848, 15uH, 1.53A; Manufacturer Part Number: 784774115; Manufacturer: Wurth Elektronik; DC Resistance max.: 0.14Ohm; Saturation Current: 1.9A; Self Resonant Frequency: 20MHz; DC Resistance typ.: 0.089Ohm; Rated Voltage: 80VDC; Supply 1 Name: Digi-Key; Supply 1 SN: 732-6832-2-ND; Supply 2 Name: Mouser; Supply 2 SN: 710-784774115; Supply 3 Name: thegioiic; ComponentLink1Description: Manufacturer; ComponentLink1URL: http://www.we-online.de; ComponentLink2Description: Datasheet; ComponentLink2URL: https://www.we-online.com/catalog/datasheet/784774115.pdf; Published Date: May 2020; Rated Current: 1.53A; Inductance: 15uH; Operating Temperature: -40 to +125degC; Mounting Technology: SMT; Packaging: Tape and Reel; Size: 5848; Supply 1 URL: https://www.digikey.com/en/products/detail/w%C3%BCrth-elektronik/784774115/5168867?s=N4IgTCBcDaIOwA4Asc5IIzoKwgLoF8g; Supply 2 URL: https://www.mouser.vn/ProductDetail/Wurth-Elektronik/784774115?qs=sBf%2Fb4nBSleoo7TtqR8SIg%3D%3D; Supply 3 URL: https://www.thegioiic.com/cuon-cam-dan-smd-cd53-5852-150-15uh-1-7a
footprint WE-PD2A_5848
pins: 1, 2

## 784774118
designator L?, comment 18uH, 1.45A
WE-PD2A SMT Power Inductor, size 5848, 18uH, 1.45A; Manufacturer Part Number: 784774118; Manufacturer: Wurth Elektronik; DC Resistance max.: 0.15Ohm; Saturation Current: 1.69A; Self Resonant Frequency: 19MHz; DC Resistance typ.: 0.104Ohm; Rated Voltage: 80VDC; Supply 1 Name: Digi-Key; Supply 1 SN: 732-6833-2-ND; Supply 2 Name: Mouser; Supply 2 SN: 710-784774118; Supply 3 Name: thegioiic; ComponentLink1Description: Manufacturer; ComponentLink1URL: http://www.we-online.de; ComponentLink2Description: Datasheet; ComponentLink2URL: https://www.we-online.com/catalog/datasheet/784774118.pdf; Published Date: May 2020; Rated Current: 1.45A; Inductance: 18uH; Operating Temperature: -40 to +125degC; Mounting Technology: SMT; Packaging: Tape and Reel; Size: 5848; Supply 1 URL: https://www.digikey.com/en/products/detail/w%C3%BCrth-elektronik/784774118/5168868?s=N4IgTCBcDaIOwA4Asc5IIzoSAugXyA; Supply 2 URL: https://www.mouser.vn/ProductDetail/Wurth-Elektronik/784774118?qs=sBf%2Fb4nBSldyi82E%2Fy0cEQ%3D%3D; Supply 3 URL: https://www.thegioiic.com/cuon-cam-dan-smd-cd53-5852-180-18uh-1-6a
footprint WE-PD2A_5848
pins: 1, 2

## 784774122
designator L?, comment 22uH, 1.28A
WE-PD2A SMT Power Inductor, size 5848, 22uH, 1.28A; Manufacturer Part Number: 784774122; Manufacturer: Wurth Elektronik; DC Resistance max.: 0.18Ohm; Saturation Current: 1.53A; Self Resonant Frequency: 16MHz; DC Resistance typ.: 0.109Ohm; Rated Voltage: 80VDC; Supply 1 Name: Digi-Key; Supply 1 SN: 732-6834-2-ND; Supply 2 Name: Mouser; Supply 2 SN: 710-784774122; Supply 3 Name: thegioiic; ComponentLink1Description: Manufacturer; ComponentLink1URL: http://www.we-online.de; ComponentLink2Description: Datasheet; ComponentLink2URL: https://www.we-online.com/catalog/datasheet/784774122.pdf; Published Date: May 2020; Rated Current: 1.28A; Inductance: 22uH; Operating Temperature: -40 to +125degC; Mounting Technology: SMT; Packaging: Tape and Reel; Size: 5848; Supply 1 URL: https://www.digikey.com/en/products/detail/w%C3%BCrth-elektronik/784774122/5168869?s=N4IgTCBcDaIOwA4Asc5IIxggXQL5A; Supply 2 URL: https://www.mouser.vn/ProductDetail/Wurth-Elektronik/784774122?qs=sBf%2Fb4nBSlfVM2OiWUTSBg%3D%3D; Supply 3 URL: https://www.thegioiic.com/cuon-cam-dan-smd-cd53-5852-220-22uh-1-5a
footprint WE-PD2A_5848
pins: 1, 2

## 784774127
designator L?, comment 27uH, 1.19A
WE-PD2A SMT Power Inductor, size 5848, 27uH, 1.19A; Manufacturer Part Number: 784774127; Manufacturer: Wurth Elektronik; DC Resistance max.: 0.2Ohm; Saturation Current: 1.4A; Self Resonant Frequency: 15MHz; DC Resistance typ.: 0.133Ohm; Rated Voltage: 80VDC; Supply 1 Name: Digi-Key; Supply 1 SN: 732-6835-2-ND; Supply 2 Name: Mouser; Supply 2 SN: 710-784774127; Supply 3 Name: thegioiic; ComponentLink1Description: Manufacturer; ComponentLink1URL: http://www.we-online.de; ComponentLink2Description: Datasheet; ComponentLink2URL: https://www.we-online.com/catalog/datasheet/784774127.pdf; Published Date: May 2020; Rated Current: 1.19A; Inductance: 27uH; Operating Temperature: -40 to +125degC; Mounting Technology: SMT; Packaging: Tape and Reel; Size: 5848; Supply 1 URL: https://www.digikey.com/en/products/detail/w%C3%BCrth-elektronik/784774127/5168870?s=N4IgTCBcDaIOwA4Asc5IIxjiAugXyA; Supply 2 URL: https://www.mouser.vn/ProductDetail/Wurth-Elektronik/784774127?qs=sBf%2Fb4nBSldrlnc5m4le1w%3D%3D; Supply 3 URL: https://www.thegioiic.com/cuon-cam-dan-smd-cd53-5852-270-27uh-1-4a
footprint WE-PD2A_5848
pins: 1, 2

## 784774133
designator L?, comment 33uH, 1.09A
WE-PD2A SMT Power Inductor, size 5848, 33uH, 1.09A; Manufacturer Part Number: 784774133; Manufacturer: Wurth Elektronik; DC Resistance max.: 0.23Ohm; Saturation Current: 1.17A; Self Resonant Frequency: 14MHz; DC Resistance typ.: 0.15Ohm; Rated Voltage: 80VDC; Supply 1 Name: Digi-Key; Supply 1 SN: 732-6836-2-ND; Supply 2 Name: Mouser; Supply 2 SN: 710-784774133; Supply 3 Name: thegioiic; ComponentLink1Description: Manufacturer; ComponentLink1URL: http://www.we-online.de; ComponentLink2Description: Datasheet; ComponentLink2URL: https://www.we-online.com/catalog/datasheet/784774133.pdf; Published Date: May 2020; Rated Current: 1.09A; Inductance: 33uH; Operating Temperature: -40 to +125degC; Mounting Technology: SMT; Packaging: Tape and Reel; Size: 5848; Supply 1 URL: https://www.digikey.com/en/products/detail/w%C3%BCrth-elektronik/784774133/5168871?s=N4IgTCBcDaIOwA4Asc5IIwGZMgLoF8g; Supply 2 URL: https://www.mouser.vn/ProductDetail/Wurth-Elektronik/784774133?qs=sBf%2Fb4nBSlcKSvlJ1UQYww%3D%3D; Supply 3 URL: https://www.thegioiic.com/cuon-cam-dan-smd-cd53-5852-330-33uh-1-1a
footprint WE-PD2A_5848
pins: 1, 2

## 784774139
designator L?, comment 39uH, 0.94A
WE-PD2A SMT Power Inductor, size 5848, 39uH, 0.94A; Manufacturer Part Number: 784774139; Manufacturer: Wurth Elektronik; DC Resistance max.: 0.32Ohm; Saturation Current: 1.1A; Self Resonant Frequency: 12MHz; DC Resistance typ.: 0.215Ohm; Rated Voltage: 80VDC; Supply 1 Name: Digi-Key; Supply 1 SN: 732-6837-2-ND; Supply 2 Name: Mouser; Supply 2 SN: 710-784774139; Supply 3 Name: thegioiic; ComponentLink1Description: Manufacturer; ComponentLink1URL: http://www.we-online.de; ComponentLink2Description: Datasheet; ComponentLink2URL: https://www.we-online.com/catalog/datasheet/784774139.pdf; Published Date: May 2020; Rated Current: 0.94A; Inductance: 39uH; Operating Temperature: -40 to +125degC; Mounting Technology: SMT; Packaging: Tape and Reel; Size: 5848; Supply 1 URL: https://www.digikey.com/en/products/detail/w%C3%BCrth-elektronik/784774139/5168872?s=N4IgTCBcDaIOwA4Asc5IIwGYCcIC6AvkA; Supply 2 URL: https://www.mouser.vn/ProductDetail/Wurth-Elektronik/784774139?qs=sBf%2Fb4nBSlf29NmVSXGfqA%3D%3D; Supply 3 URL: https://www.thegioiic.com/cuon-cam-dan-smd-cd53-5852-390-39uh-1a
footprint WE-PD2A_5848
pins: 1, 2

## 784774147
designator L?, comment 47uH, 0.86A
WE-PD2A SMT Power Inductor, size 5848, 47uH, 0.86A; Manufacturer Part Number: 784774147; Manufacturer: Wurth Elektronik; DC Resistance max.: 0.37Ohm; Saturation Current: 1A; Self Resonant Frequency: 10MHz; DC Resistance typ.: 0.26Ohm; Rated Voltage: 80VDC; Supply 1 Name: Digi-Key; Supply 1 SN: 732-6838-2-ND; Supply 2 Name: Mouser; Supply 2 SN: 710-784774147; ComponentLink1Description: Manufacturer; ComponentLink1URL: http://www.we-online.de; ComponentLink2Description: Datasheet; ComponentLink2URL: https://www.we-online.com/catalog/datasheet/784774147.pdf; Published Date: May 2020; Rated Current: 0.86A; Inductance: 47uH; Operating Temperature: -40 to +125degC; Mounting Technology: SMT; Packaging: Tape and Reel; Size: 5848; Supply 1 URL: https://www.digikey.com/en/products/detail/w%C3%BCrth-elektronik/784774147/5168873?s=N4IgTCBcDaIOwA4Asc5IIwpAXQL5A; Supply 2 URL: https://www.mouser.vn/ProductDetail/Wurth-Elektronik/784774147?qs=sBf%2Fb4nBSlctzbnKAYzY9w%3D%3D
footprint WE-PD2A_5848
pins: 1, 2

## 784774156
designator L?, comment 56uH, 0.77A
WE-PD2A SMT Power Inductor, size 5848, 56uH, 0.77A; Manufacturer Part Number: 784774156; Manufacturer: Wurth Elektronik; DC Resistance max.: 0.42Ohm; Saturation Current: 0.9A; Self Resonant Frequency: 10MHz; DC Resistance typ.: 0.298Ohm; Rated Voltage: 80VDC; Supply 1 Name: Digi-Key; Supply 1 SN: 732-6839-2-ND; Supply 2 Name: Mouser; Supply 2 SN: 710-784774156; ComponentLink1Description: Manufacturer; ComponentLink1URL: http://www.we-online.de; ComponentLink2Description: Datasheet; ComponentLink2URL: https://www.we-online.com/catalog/datasheet/784774156.pdf; Published Date: May 2020; Rated Current: 0.77A; Inductance: 56uH; Operating Temperature: -40 to +125degC; Mounting Technology: SMT; Packaging: Tape and Reel; Size: 5848; Supply 1 URL: https://www.digikey.com/en/products/detail/w%C3%BCrth-elektronik/784774156/5168874?s=N4IgTCBcDaIOwA4Asc5IIwFYBsIC6AvkA; Supply 2 URL: https://www.mouser.vn/ProductDetail/Wurth-Elektronik/784774156?qs=sBf%2Fb4nBSlc%2FUe5VBOi2yA%3D%3D
footprint WE-PD2A_5848
pins: 1, 2

## 784774168
designator L?, comment 68uH, 0.64A
WE-PD2A SMT Power Inductor, size 5848, 68uH, 0.64A; Manufacturer Part Number: 784774168; Manufacturer: Wurth Elektronik; DC Resistance max.: 0.46Ohm; Saturation Current: 0.86A; Self Resonant Frequency: 10MHz; DC Resistance typ.: 0.313Ohm; Rated Voltage: 80VDC; Supply 1 Name: Digi-Key; Supply 1 SN: 732-6840-2-ND; Supply 2 Name: Mouser; Supply 2 SN: 710-784774168; ComponentLink1Description: Manufacturer; ComponentLink1URL: http://www.we-online.de; ComponentLink2Description: Datasheet; ComponentLink2URL: https://www.we-online.com/catalog/datasheet/784774168.pdf; Published Date: May 2020; Rated Current: 0.64A; Inductance: 68uH; Operating Temperature: -40 to +125degC; Mounting Technology: SMT; Packaging: Tape and Reel; Size: 5848; Supply 1 URL: https://www.digikey.com/en/products/detail/w%C3%BCrth-elektronik/784774168/5168875?s=N4IgTCBcDaIOwA4Asc5IIwDYEgLoF8g; Supply 2 URL: https://www.mouser.vn/ProductDetail/Wurth-Elektronik/784774168?qs=sBf%2Fb4nBSld9uN%2F8XgaVFw%3D%3D
footprint WE-PD2A_5848
pins: 1, 2

## 784774182
designator L?, comment 82uH, 0.6A
WE-PD2A SMT Power Inductor, size 5848, 82uH, 0.6A; Manufacturer Part Number: 784774182; Manufacturer: Wurth Elektronik; DC Resistance max.: 0.6Ohm; Saturation Current: 0.72A; Self Resonant Frequency: 8MHz; DC Resistance typ.: 0.475Ohm; Rated Voltage: 80VDC; Supply 1 Name: Digi-Key; Supply 1 SN: 732-6841-2-ND; Supply 2 Name: Mouser; Supply 2 SN: 710-784774182; ComponentLink1Description: Manufacturer; ComponentLink1URL: http://www.we-online.de; ComponentLink2Description: Datasheet; ComponentLink2URL: https://www.we-online.com/catalog/datasheet/784774182.pdf; Published Date: May 2020; Rated Current: 0.6A; Inductance: 82uH; Operating Temperature: -40 to +125degC; Mounting Technology: SMT; Packaging: Tape and Reel; Size: 5848; Supply 1 URL: https://www.digikey.com/en/products/detail/w%C3%BCrth-elektronik/784774182/5168876?s=N4IgTCBcDaIOwA4Asc5IIwIgXQL5A; Supply 2 URL: https://www.mouser.vn/ProductDetail/Wurth-Elektronik/784774182?qs=sBf%2Fb4nBSlcez0lEaidETg%3D%3D
footprint WE-PD2A_5848
pins: 1, 2

## 784774212
designator L?, comment 120uH, 0.49A
WE-PD2A SMT Power Inductor, size 5848, 120uH, 0.49A; Manufacturer Part Number: 784774212; Manufacturer: Wurth Elektronik; DC Resistance max.: 0.93Ohm; Saturation Current: 0.63A; Self Resonant Frequency: 7MHz; DC Resistance typ.: 0.66Ohm; Rated Voltage: 80VDC; Supply 1 Name: Digi-Key; Supply 1 SN: 732-6843-2-ND; Supply 2 Name: Mouser; Supply 2 SN: 710-784774212; ComponentLink1Description: Manufacturer; ComponentLink1URL: http://www.we-online.de; ComponentLink2Description: Datasheet; ComponentLink2URL: https://www.we-online.com/catalog/datasheet/784774212.pdf; Published Date: May 2020; Rated Current: 0.49A; Inductance: 120uH; Operating Temperature: -40 to +125degC; Mounting Technology: SMT; Packaging: Tape and Reel; Size: 5848; Supply 1 URL: https://www.digikey.com/en/products/detail/w%C3%BCrth-elektronik/784774212/5168877?s=N4IgTCBcDaIOwA4Asc5LARggXQL5A; Supply 2 URL: https://www.mouser.vn/ProductDetail/Wurth-Elektronik/784774212?qs=sBf%2Fb4nBSlf8mVbHwLAxxA%3D%3D
footprint WE-PD2A_5848
pins: 1, 2

## 784774215
designator L?, comment 150uH, 0.46A
WE-PD2A SMT Power Inductor, size 5848, 150uH, 0.46A; Manufacturer Part Number: 784774215; Manufacturer: Wurth Elektronik; DC Resistance max.: 1.1Ohm; Saturation Current: 0.54A; Self Resonant Frequency: 6MHz; DC Resistance typ.: 0.72Ohm; Rated Voltage: 80VDC; Supply 1 Name: Digi-Key; Supply 1 SN: 732-6844-2-ND; Supply 2 Name: Mouser; Supply 2 SN: 710-784774215; ComponentLink1Description: Manufacturer; ComponentLink1URL: http://www.we-online.de; ComponentLink2Description: Datasheet; ComponentLink2URL: https://www.we-online.com/catalog/datasheet/784774215.pdf; Published Date: May 2020; Rated Current: 0.46A; Inductance: 150uH; Operating Temperature: -40 to +125degC; Mounting Technology: SMT; Packaging: Tape and Reel; Size: 5848; Supply 1 URL: https://www.digikey.com/en/products/detail/w%C3%BCrth-elektronik/784774215/5168878?s=N4IgTCBcDaIOwA4Asc5LARgKwgLoF8g; Supply 2 URL: https://www.mouser.vn/ProductDetail/Wurth-Elektronik/784774215?qs=sBf%2Fb4nBSldOI6iEaAoXhQ%3D%3D
footprint WE-PD2A_5848
pins: 1, 2

## 784774218
designator L?, comment 180uH, 0.42A
WE-PD2A SMT Power Inductor, size 5848, 180uH, 0.42A; Manufacturer Part Number: 784774218; Manufacturer: Wurth Elektronik; DC Resistance max.: 1.38Ohm; Saturation Current: 0.5A; Self Resonant Frequency: 6MHz; DC Resistance typ.: 0.85Ohm; Rated Voltage: 80VDC; Supply 1 Name: Digi-Key; Supply 1 SN: 732-6845-2-ND; Supply 2 Name: Mouser; Supply 2 SN: 710-784774218; ComponentLink1Description: Manufacturer; ComponentLink1URL: http://www.we-online.de; ComponentLink2Description: Datasheet; ComponentLink2URL: https://www.we-online.com/catalog/datasheet/784774218.pdf; Published Date: May 2020; Rated Current: 0.42A; Inductance: 180uH; Operating Temperature: -40 to +125degC; Mounting Technology: SMT; Packaging: Tape and Reel; Size: 5848; Supply 1 URL: https://www.digikey.com/en/products/detail/w%C3%BCrth-elektronik/784774218/5168879?s=N4IgTCBcDaIOwA4Asc5LARgSAugXyA; Supply 2 URL: https://www.mouser.vn/ProductDetail/Wurth-Elektronik/784774218?qs=sBf%2Fb4nBSle8%2F%2Fncjy8uHQ%3D%3D
footprint WE-PD2A_5848
pins: 1, 2

## 784774222
designator L?, comment 220uH, 0.41A
WE-PD2A SMT Power Inductor, size 5848, 220uH, 0.41A; Manufacturer Part Number: 784774222; Manufacturer: Wurth Elektronik; DC Resistance max.: 1.57Ohm; Saturation Current: 0.47A; Self Resonant Frequency: 5MHz; DC Resistance typ.: 0.945Ohm; Rated Voltage: 80VDC; Supply 1 Name: Digi-Key; Supply 1 SN: 732-6846-2-ND; Supply 2 Name: Mouser; Supply 2 SN: 710-784774222; ComponentLink1Description: Manufacturer; ComponentLink1URL: http://www.we-online.de; ComponentLink2Description: Datasheet; ComponentLink2URL: https://www.we-online.com/catalog/datasheet/784774222.pdf; Published Date: May 2020; Rated Current: 0.41A; Inductance: 220uH; Operating Temperature: -40 to +125degC; Mounting Technology: SMT; Packaging: Tape and Reel; Size: 5848; Supply 1 URL: https://www.digikey.com/en/products/detail/w%C3%BCrth-elektronik/784774222/5168880?s=N4IgTCBcDaIOwA4Asc5LBkBdAvkA; Supply 2 URL: https://www.mouser.vn/ProductDetail/Wurth-Elektronik/784774222?qs=sBf%2Fb4nBSlf2yvEr8fQTJA%3D%3D
footprint WE-PD2A_5848
pins: 1, 2


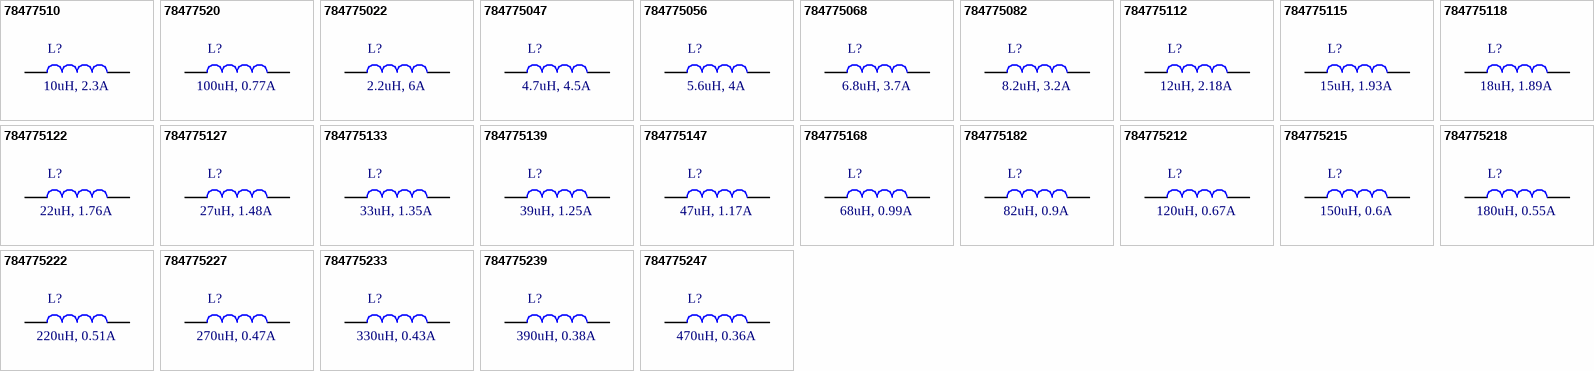
[diagram p2: symbols 78477510 to 784775247]